# EAGLE library part ADC128S102 (library texas-instruments)
8-Channel, 500 ksps to 1 Msps, 12-Bit A/D Converter The ADC128S102 is a low-power, eight-channel CMOS 12-bit analog-to-digital converter specified for conversion throughput rates of 500 ksps to 1 MSPS. The converter is based on a successive-approximation register architecture with an internal track-and-hold circuit. It can be configured to accept up to eight input signals at inputs IN0 through IN7. The output serial data is straight binary and is compatible with several standards, such as SPI™, QSPI™, MICROWIRE™, and many common DSP serial interfaces. The ADC128S102 may be operated with independent analog and digital supplies. The analog supply (VA) can range from +2.7V to +5.25V, and the digital supply (VD) can range from +2.7V to VA. Normal power consumption using a +3V or +5V supply is 2.3 mW and 10.7 mW, respectively. The powerdown feature reduces the power consumption to 0.06 µW using a +3V supply and 0.25 µW using a +5V supply. The ADC128S102 is packaged in a 16-lead TSSOP package. Operation over the extended industrial temperature range of −40°C to +105°C is guaranteed.
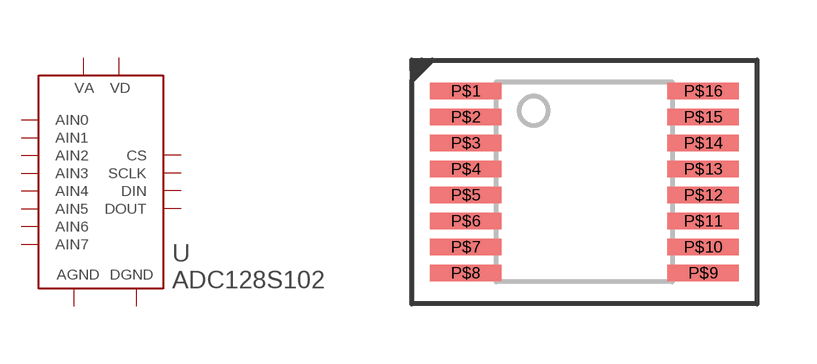
[diagram p2: symbol with the pads of TSSOP-16; footprint TSSOP-16]

Designator prefix U

## ADC128S102  [TSSOP-16]
P$1  CS  in
P$2  VA  pwr
P$3  AGND  pwr
P$4  AIN0  in
P$5  AIN1  in
P$6  AIN2  in
P$7  AIN3  in
P$8  AIN4  in
P$9  AIN5  in
P$10  AIN6  in
P$11  AIN7  in
P$12  DGND  pwr
P$13  VD  pwr
P$14  DIN  in
P$15  DOUT  out
P$16  SCLK  in

## Footprint TSSOP-16 (pad centres in mm)
smd 1.78 x 0.42: P$1 -2.97,2.275; P$2 -2.97,1.625; P$3 -2.97,0.975; P$4 -2.97,0.325; P$5 -2.97,-0.325; P$6 -2.97,-0.975; P$7 -2.97,-1.625; P$8 -2.97,-2.275; P$9 2.97,-2.275; P$10 2.97,-1.625; P$11 2.97,-0.975; P$12 2.97,-0.325; P$13 2.97,0.325; P$14 2.97,0.975; P$15 2.97,1.625; P$16 2.97,2.275